# Altium schematic symbol library 74LVCH2T45RA3-7.SchLib: 1 symbol
Pins are listed as number, name and electrical type; pins without a type are passive.

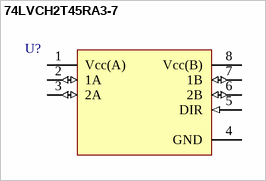
[diagram p0: symbol 74LVCH2T45RA3-7]

## 74LVCH2T45RA3-7
designator U?
= Description; Manufacturer: Diodes Inc.; Manufacturer Part Number: 74LVCH2T45RA3-7; Supplier 1: Digi-Key; Stock 1: 4660; Pricing 1: 1=0.44000, 10=0.35400, 25=0.32360, 100=0.24080, 250=0.21824, 500=0.18062, 1000=0.13547, 2500=0.12418 (USD); Supplier Part Number 1: 31-74LVCH2T45RA3-7CT-ND
pins: 1 Vcc(A) (power), 2 1A (io), 3 2A (io), 4 GND (power), 5 DIR (in), 6 2B (io), 7 1B (io), 8 Vcc(B) (power)